# EAGLE library part WE-BAL_0805 (library WE-BAL)
WE-BAL Multilayer Chip Balun Characteristics Low loss SMD Balun with balanced impedance of 50 to 200 Ω Operating temperature: –40 °C to +85 °C Power Capacity: 2 W max. Applications RF applications Wireless communication systems like Home RF, DECT, WLAN, Bluetooth, ZigBee … <https://katalog.we-online.com/media/images/v2/o14748v209%20Baluns.jpg> Details see: https://katalog.we-online.com/en/pbs/WE-BAL Updated by Ella Wu 2019-08-16 2019 (C) Wurth Elektronik
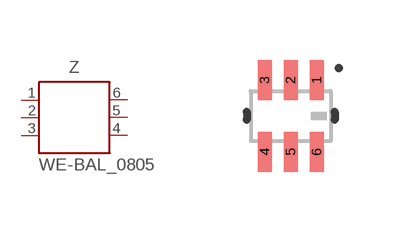
[diagram p0: symbol with the pads of WE-BAL_0805; footprint WE-BAL_0805]

Designator prefix Z

## WE-BAL_0805_748421245 (DATASHEET-URL: https://katalog.we-online.com/pbs/datasheet/748421245.pdf; IL: 0.54dB; IL1: 1dB; MOUNT: SMT; PART-NUMBER: 748421245; VALUE: 2400-2500 MHz; VSWR: 2), WE-BAL_0805_748421551 (DATASHEET-URL: https://katalog.we-online.com/pbs/datasheet/748421551.pdf; IL: 0.68dB; IL1: 1dB; MOUNT: SMT; PART-NUMBER: 748421551; VALUE: 5150-5875 MHz; VSWR: 2), WE-BAL_0805_748422245 (DATASHEET-URL: https://katalog.we-online.com/pbs/datasheet/748422245.pdf; IL: 0.76dB; IL1: 1dB; MOUNT: SMT; PART-NUMBER: 748422245; VALUE: 2400-2500 MHz; VSWR: 2), WE-BAL_0805_748425245 (DATASHEET-URL: https://katalog.we-online.com/pbs/datasheet/748425245.pdf; IL: 0.53dB; IL1: 1dB; MOUNT: SMT; PART-NUMBER: 748425245; VALUE: 2400-2500 MHz; VSWR: 2)  [WE-BAL_0805]
1  1  pas
2  2  pas
3  3  pas
4  4  pas
5  5  pas
6  6  pas

## Footprint WE-BAL_0805 (pad centres in mm)
WE-BAL Multilayer Chip Balun Size: 0805
smd 0.35 x 1: 1 0.65,0.9; 2 0,0.9; 3 -0.65,0.9; 4 -0.65,-0.9; 5 0,-0.9; 6 0.65,-0.9